# Altium schematic symbol library C320C104M5U5TA.SchLib: 1 symbol
Pins are listed as number, name and electrical type; pins without a type are passive.

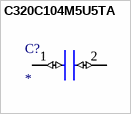
[diagram p0: symbol C320C104M5U5TA]

## C320C104M5U5TA
designator C?
<b>KEMET 100nF Multilayer Ceramic Capacitor MLCC 50V dc +/-20% Z5U Dielectric C320, Max. Temp. +85C</b><p> Source: <a href="https://content.kemet.com/datasheets/KEM_C1051_GOLDMAX_Z5U.pdf"> Datasheet </a>; MP: C320C104M5U5TA; MF: {'manufacturer': u'KEMET'}; Value: *; Price: None; Package: None; Availability: Unavailable
footprint C320C
pins: 1 (io), 2 (io)